# EAGLE library part XC9536XL-5VQG44C (library CPLD)
IC CPLD 36MC 5NS 44VQFP Manufacturer's datasheet <https://www.xilinx.com/support/documentation/package_specs/vq44.pdf>
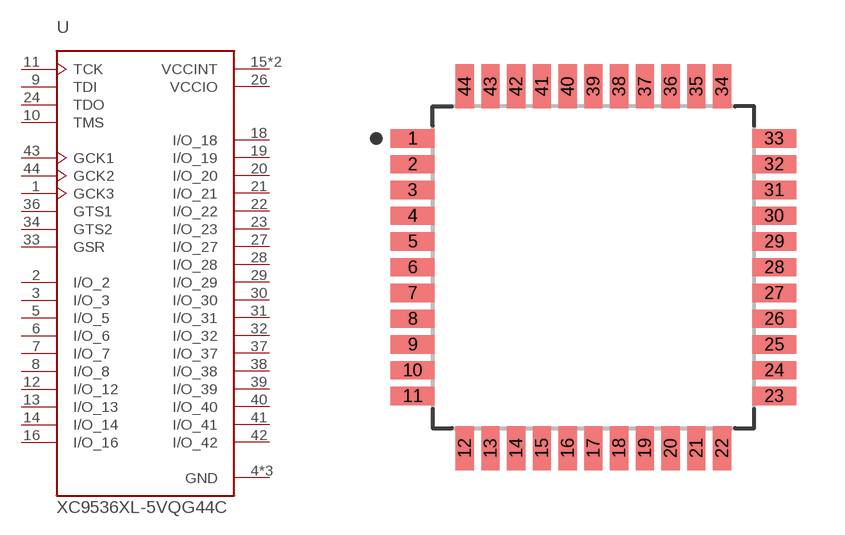
[diagram p8: symbol with the pads of VQFP-44; footprint VQFP-44]

Designator prefix U

## XC9536XL-5VQG44C (CREATED_BY: PCBLayout.com; DIGIKEY_PN: 122-1465-ND; MANUFACTURER: Xilinx Inc.; MPN: XC9536XL-5VQG44C; PACKAGE: VQFP-44)  [VQFP-44]
1  GCK3
2  I/O_2
3  I/O_3
4  GND  pwr
5  I/O_5
6  I/O_6
7  I/O_7
8  I/O_8
9  TDI  in
10  TMS  in
11  TCK  oc
12  I/O_12
13  I/O_13
14  I/O_14
15  VCCINT  pwr
16  I/O_16
17  GND  pwr
18  I/O_18
19  I/O_19
20  I/O_20
21  I/O_21
22  I/O_22
23  I/O_23
24  TDO  out
25  GND  pwr
26  VCCIO  pwr
27  I/O_27
28  I/O_28
29  I/O_29
30  I/O_30
31  I/O_31
32  I/O_32
33  GSR
34  GTS2
35  VCCINT  pwr
36  GTS1
37  I/O_37
38  I/O_38
39  I/O_39
40  I/O_40
41  I/O_41
42  I/O_42
43  GCK1
44  GCK2

## Footprint VQFP-44 (pad centres in mm)
smd 1.37 x 0.57: 1 -5.62,4; 2 -5.62,3.2; 3 -5.62,2.4; 4 -5.62,1.6; 5 -5.62,0.8; 6 -5.62,0; 7 -5.62,-0.8; 8 -5.62,-1.6; 9 -5.62,-2.4; 10 -5.62,-3.2; 11 -5.62,-4; 23 5.62,-4; 24 5.62,-3.2; 25 5.62,-2.4; 26 5.62,-1.6; 27 5.62,-0.8; 28 5.62,0; 29 5.62,0.8; 30 5.62,1.6; 31 5.62,2.4; 32 5.62,3.2; 33 5.62,4
smd 0.57 x 1.37: 12 -4,-5.62; 13 -3.2,-5.62; 14 -2.4,-5.62; 15 -1.6,-5.62; 16 -0.8,-5.62; 17 0,-5.62; 18 0.8,-5.62; 19 1.6,-5.62; 20 2.4,-5.62; 21 3.2,-5.62; 22 4,-5.62; 34 4,5.62; 35 3.2,5.62; 36 2.4,5.62; 37 1.6,5.62; 38 0.8,5.62; 39 0,5.62; 40 -0.8,5.62; 41 -1.6,5.62; 42 -2.4,5.62; 43 -3.2,5.62; 44 -4,5.62